# Altium footprint library KMS2xxGLFS.PcbLib: 1 footprints
Each footprint in its own frame and in the unit in brackets; x right, y up, seen from the top. Pads: shape width x height; smd on the part's side, far side on the other; paste and mask are expansions set on the pad; w line width, h text height; cw(c..) or ccw(c..) is an arc to the next point about the centre after c.
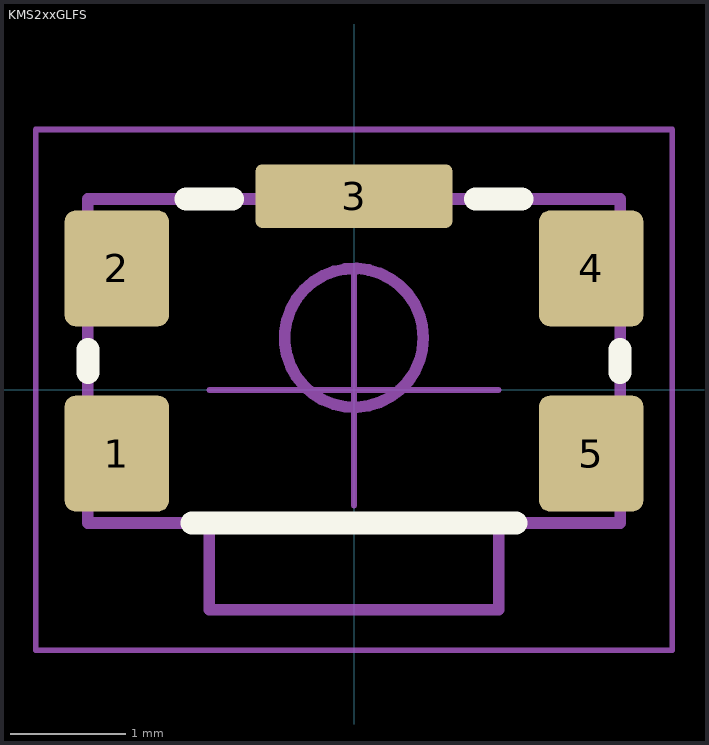
[diagram p0: the footprint, top view; thin cyan lines are the x and y axes]

## KMS2xxGLFS [mm]
height 1.42
pads (5):
  rrect20% 0.9x1 smd: 1(-2.05,-0.55) 2(-2.05,1.05) 4(2.05,1.05) 5(2.05,-0.55)
  rrect20% 1.7x0.55 smd: 3(0,1.675)
Top Overlay:
  lines w0.2: -2.3,0.15 -2.3,0.35 ; -1.45,1.65 -1.05,1.65 ; -1.4,-1.15 1.4,-1.15 ; 1.05,1.65 1.45,1.65 ; 2.3,0.15 2.3,0.35
Top Assembly:
  circle w0.1: c0,0.45 r0.6
  lines w0.1: -1.25,-1.15 -1.25,-1.9 1.25,-1.9 1.25,-1.15 ; -2.3,-1.15 -2.3,1.65 2.3,1.65 2.3,-1.15 -2.3,-1.15
Top Courtyard:
  lines w0.05: -2.75,-2.25 -2.75,2.25 2.75,2.25 2.75,-2.25 -2.75,-2.25
Top Designator:
  text ".Designator" at 0.85,-0.05 h1
Top Component Center:
  lines w0.05: -1.25,0 1.25,0 ; 0,-1 0,1
3D body "User Library-KMS231G.STEP": height 1.42, standoff -0.02, extent -2.3,-1.9 2.3,1.65